# EAGLE library part PRO_MICRO_THROUGH_HOLE (library Arduino)
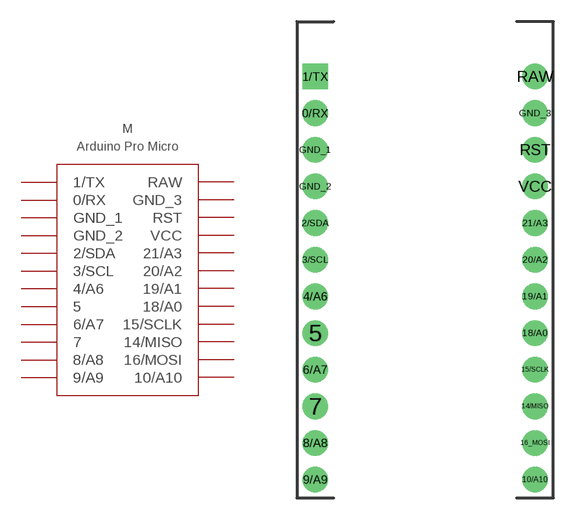
[diagram p0: symbol with the pads of PRO_MICRO_THROUGH_HOLE; footprint PRO_MICRO_THROUGH_HOLE]

Designator prefix M

## PRO_MICRO_THROUGH_HOLE  [PRO_MICRO_THROUGH_HOLE]
0/RX  0/RX
1/TX  1/TX
2/SDA  2/SDA
3/SCL  3/SCL
4/A6  4/A6
5  5
6/A7  6/A7
7  7
8/A8  8/A8
9/A9  9/A9
10/A10  10/A10
14/MISO  14/MISO
15/SCLK  15/SCLK
16_MOSI  16/MOSI
18/A0  18/A0
19/A1  19/A1
20/A2  20/A2
21/A3  21/A3
GND_1  GND_1
GND_2  GND_2
GND_3  GND_3
RAW  RAW
RST  RST
VCC  VCC

## Footprint PRO_MICRO_THROUGH_HOLE (pad centres in mm)
drill 1 pad 1.778: 0/RX -7.62,11.43; 2/SDA -7.62,3.81; 3/SCL -7.62,1.27; 4/A6 -7.62,-1.27; 5 -7.62,-3.81; 6/A7 -7.62,-6.35; 7 -7.62,-8.89; 8/A8 -7.62,-11.43; 9/A9 -7.62,-13.97; 10/A10 7.62,-13.97; 14/MISO 7.62,-8.89; 15/SCLK 7.62,-6.35; 16_MOSI 7.62,-11.43; 18/A0 7.62,-3.81; 19/A1 7.62,-1.27; 20/A2 7.62,1.27; 21/A3 7.62,3.81; GND_1 -7.62,8.89; GND_2 -7.62,6.35; GND_3 7.62,11.43; RAW 7.62,13.97; RST 7.62,8.89; VCC 7.62,6.35
drill 1 pad 1.778 square: 1/TX -7.62,13.97